# Altium schematic symbol library TH Electrolytic Aluminum capacitors.SchLib: 4 symbols
Pins are listed as number, name and electrical type; pins without a type are passive.

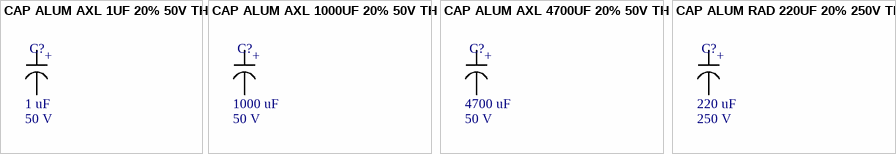
[diagram p0: symbols CAP ALUM AXL 1UF 20% 50V TH to CAP ALUM RAD 220UF 20% 250V TH]

## CAP ALUM AXL 1UF 20% 50V TH
designator C?  Capacitance: 1 uF  Voltage: 50 V  (hidden comment: CAP ALUM AXL 1UF 20% 50V TH)
footprint CAP AL TH RAD D4 L1.5 H7 (4MM Diameter, 1.5MM Lead Spacing Aluminium Capacitor)
footprint CAP AL TH RAD HORIZ D4 L1.5 H7 (4MM Diameter, 1.5MM Lead Spacing Aluminium Capacitor ( Horizontal ))
pins: 1 +, 2 -

## CAP ALUM AXL 1000UF 20% 50V TH
designator C?  Capacitance: 1000 uF  Voltage: 50 V  (hidden comment: CAP ALUM AXL 1000UF 20% 50V TH)
footprint CAP AL TH AXL D16 L35 H31 (16MM Diameter, 35MM Lead Spacing Aluminium Capacitor)
pins: 1 +, 2 -

## CAP ALUM AXL 4700UF 20% 50V TH
designator C?  Capacitance: 4700 uF  Voltage: 50 V  (hidden comment: CAP ALUM AXL 4700UF 20% 50V TH)
footprint CAP AL TH AXL D22 L55 H51 (22MM Diameter, 55MM Lead Spacing Aluminium Capacitor)
pins: 1 +, 2 -

## CAP ALUM RAD 220UF 20% 250V TH
designator C?  Capacitance: 220 uF  Voltage: 250 V  (hidden comment: CAP ALUM RAD 220UF 20% 250V TH)
footprint CAP AL TH RAD D16 L7.5 H26.5 (16MM Diameter, 7.5MM Lead Spacing Aluminium Capacitor)
pins: 1 +, 2 -